# Altium footprint library 60W-PD.PcbLib: 70 footprints (part 4 of 5)
Each footprint in its own frame and in the unit in brackets; x right, y up, seen from the top. Pads: shape width x height; smd on the part's side, far side on the other; paste and mask are expansions set on the pad; w line width, h text height; cw(c..) or ccw(c..) is an arc to the next point about the centre after c.
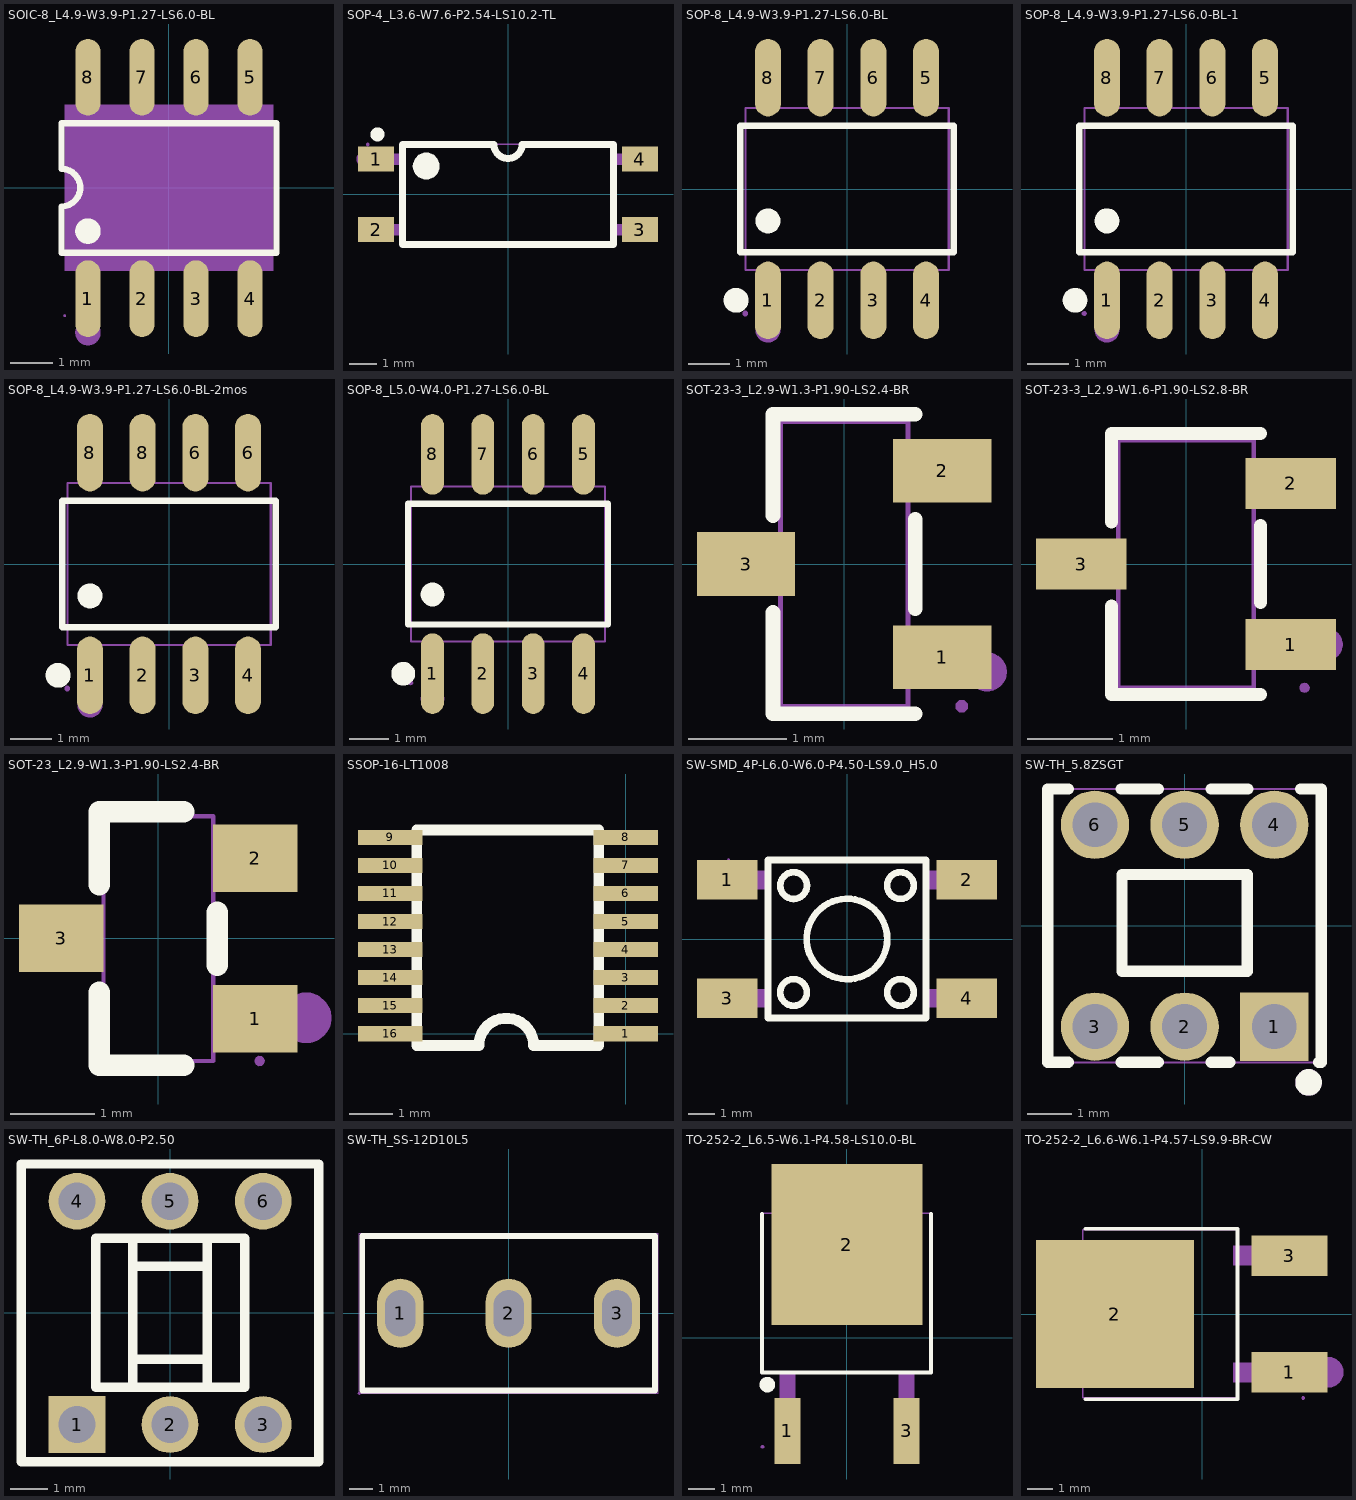
[diagram p3: the footprints below, top view; thin cyan lines are the x and y axes]

## SOIC-8_L4.9-W3.9-P1.27-LS6.0-BL [mil]
pads (8):
  oval 23.1x70.9 smd paste+0 mask+2: 1(-75,-102.4) 2(-25,-102.4) 3(25,-102.4) 4(75,-102.4) 5(75,102.3) 6(25,102.3) 7(-25,102.3) 8(-75,102.3)
Top Overlay:
  lines w5.9: -81.4,-59.9 -99.5,-59.9 ; -81.4,59.9 -99.5,59.9 ; -68.6,-59.9 -31.4,-59.9 ; -68.6,59.9 -31.4,59.9 ; -18.6,-59.9 18.6,-59.9 ; -18.6,59.9 18.6,59.9 ; 31.4,-59.9 68.6,-59.9 ; 31.4,59.9 68.6,59.9 ; 81.4,-59.9 99.4,-59.9 ; 81.4,59.9 99.4,59.9 ; -99.5,-59.9 99.4,-59.9 ; -99.5,-59.9 -99.5,-17.2 -95.9,-16.8 -92.4,-15.7 -89.3,-13.8 -86.6,-11.4 -84.4,-8.5 -82.9,-5.1 -82.2,-1.6 -82.2,2.1 -82.9,5.6 -84.4,8.9 -86.6,11.9 -89.3,14.3 -92.4,16.1 -95.9,17.3 -99.5,17.6 -99.5,59.9 ; -99.5,59.9 99.4,59.9 ; 99.4,-59.9 99.4,59.9
  lines w11.8: -80.9,-40 cw(c-75,-40) -69.1,-40 cw(c-75,-40) -80.9,-40
Mechanical 5:
  lines w11.8: -80.9,-133.9 cw(c-75,-133.9) -69.1,-133.9 cw(c-75,-133.9) -80.9,-133.9
Mechanical 9:
  region: -96.5,-76.8 -96.5,76.7 96.4,76.7 96.4,-76.8
Mechanical 10:
  region: -83.3,-85.7 -83.3,-76.4 -66.8,-76.4 -66.8,-85.7
  region: -33.3,-85.7 -33.3,-76.4 -16.8,-76.4 -16.8,-85.7
  region: 16.7,-85.7 16.7,-76.4 33.2,-76.4 33.2,-85.7
  region: 66.7,-85.7 66.7,-76.4 83.2,-76.4 83.2,-85.7
  region: -83.3,85.6 -83.3,76.3 -66.8,76.3 -66.8,85.6
  region: -33.3,85.6 -33.3,76.3 -16.8,76.3 -16.8,85.6
  region: 16.7,85.6 16.7,76.3 33.2,76.3 33.2,85.6
  region: 66.7,85.6 66.7,76.3 83.2,76.3 83.2,85.6
Mechanical 11:
  region: -95.3,-118.1 -95.7,-117.3 -96.5,-117 -97.3,-117.3 -97.7,-118.1 -97.3,-119 -96.5,-119.3 -95.7,-119
Mechanical 12:
  region: -83.3,-118.1 -83.3,-85.3 -66.8,-85.3 -66.8,-118.1
  region: -33.3,-118.1 -33.3,-85.3 -16.8,-85.3 -16.8,-118.1
  region: 16.7,-118.1 16.7,-85.3 33.2,-85.3 33.2,-118.1
  region: 66.7,-118.1 66.7,-85.3 83.2,-85.3 83.2,-118.1
  region: -83.3,118.1 -83.3,85.2 -66.8,85.2 -66.8,118.1
  region: -33.3,118.1 -33.3,85.2 -16.8,85.2 -16.8,118.1
  region: 16.7,118.1 16.7,85.2 33.2,85.2 33.2,118.1
  region: 66.7,118.1 66.7,85.2 83.2,85.2 83.2,118.1

## SOP-4_L3.6-W7.6-P2.54-LS10.2-TL [mil]
pads (4):
  rect 51.2x35.4 smd: 1(-187,50) 2(-187,-50) 3(187,-50) 4(187,50)
Top Overlay:
  circle w10: c-185,85 r5
  region: -135,39.97 -134.63,36.24 -131.77,29.37 -126.49,24.11 -119.61,21.26 -112.16,21.27 -105.28,24.12 -100.02,29.39 -97.17,36.28 -97.17,43.72 -100.02,50.61 -105.28,55.88 -112.16,58.73 -119.61,58.74 -126.49,55.89 -131.77,50.63 -134.63,43.76 -135,40.03 -135,40.1
  lines w10: -20,70.8 -149.6,70.8 -149.6,-70.9 149.6,-70.9 149.6,70.8 20,70.8 ; -20,70.9 ccw(c0,70.9) 20,70.9
Mechanical 2:
  circle w10: c-205,50 r5
Mechanical 6:
  lines w2: -149.6,-70.9 149.6,-70.9 149.6,70.8 -149.6,70.8 -149.6,-70.9
Mechanical 7:
  region: -171.7,42.1 -171.7,57.8 -147.2,57.8 -147.2,42.1
  region: -171.7,-57.9 -171.7,-42.2 -147.2,-42.2 -147.2,-57.9
  region: 147.2,-57.9 147.2,-42.2 171.7,-42.2 171.7,-57.9
  region: 147.2,42.1 147.2,57.8 171.7,57.8 171.7,42.1
Mechanical 8:
  region: -196.4,70.8 -196.4,69.81 -197.81,68.4 -199.79,68.4 -201.2,69.81 -201.2,70.8 -201.2,71.79 -199.79,73.2 -197.81,73.2 -196.4,71.79
Mechanical 9:
  region: -198.8,42.1 -198.8,57.8 -171.3,57.8 -171.3,42.1
  region: -198.8,-57.9 -198.8,-42.2 -171.3,-42.2 -171.3,-57.9
  region: 171.3,-57.9 171.3,-42.2 198.8,-42.2 198.8,-57.9
  region: 171.3,42.1 171.3,57.8 198.8,57.8 198.8,42.1
3D body "Unnamed-EasyEDA PCB Model~TzVf.step": height 78.74, standoff 0, extent -200.79,-70.87 200.79,70.87

## SOP-8_L4.9-W3.9-P1.27-LS6.0-BL [mil]
pads (8):
  oval 24.8x73.4 smd: 1(-75,-105.6) 2(-25,-105.6) 3(25,-105.6) 4(75,-105.6) 5(75,105.6) 6(25,105.6) 7(-25,105.6) 8(-75,105.6)
Top Overlay:
  circle w11.8: c-105.2,-105.6 r5.9
  circle w11.8: c-75,-30.3 r5.9
  lines w6: -101.4,-59.9 101.4,-59.9 101.4,59.9 -101.4,59.9 -101.4,-59.9
Mechanical 2:
  circle w11.8: c-75,-133.8 r5.9
Mechanical 6:
  lines w2: -96.4,-76.7 96.5,-76.7 96.5,76.8 -96.4,76.8 -96.4,-76.7
Mechanical 7:
  region: -83.4,-92.9 -83.4,-76.4 -66.5,-76.4 -66.5,-92.9
  region: -33.4,-92.9 -33.4,-76.4 -16.5,-76.4 -16.5,-92.9
  region: 16.6,-92.9 16.6,-76.4 33.5,-76.4 33.5,-92.9
  region: 66.6,-92.9 66.6,-76.4 83.5,-76.4 83.5,-92.9
  region: -83.4,76.4 -83.4,92.9 -66.5,92.9 -66.5,76.4
  region: -33.4,76.4 -33.4,92.9 -16.5,92.9 -16.5,76.4
  region: 16.6,76.4 16.6,92.9 33.5,92.9 33.5,76.4
  region: 66.6,76.4 66.6,92.9 83.5,92.9 83.5,76.4
Mechanical 8:
  region: -94,-118.1 -94,-119.09 -95.41,-120.5 -97.39,-120.5 -98.8,-119.09 -98.8,-118.1 -98.8,-117.11 -97.39,-115.7 -95.41,-115.7 -94,-117.11 -94,-118.1 -94.1,-118.1
Mechanical 9:
  region: -83.4,-118.1 -83.4,-92.5 -66.5,-92.5 -66.5,-118.1
  region: -33.4,-118.1 -33.4,-92.5 -16.5,-92.5 -16.5,-118.1
  region: 16.6,-118.1 16.6,-92.5 33.5,-92.5 33.5,-118.1
  region: 66.6,-118.1 66.6,-92.5 83.5,-92.5 83.5,-118.1
  region: -83.4,92.5 -83.4,118.1 -66.5,118.1 -66.5,92.5
  region: -33.4,92.5 -33.4,118.1 -16.5,118.1 -16.5,92.5
  region: 16.6,92.5 16.6,118.1 33.5,118.1 33.5,92.5
  region: 66.6,92.5 66.6,118.1 83.5,118.1 83.5,92.5
3D body "Unnamed-EasyEDA PCB Model~ELOi.step": height 59.06, standoff 0, extent -96.85,-120.36 96.06,115.86

## SOP-8_L4.9-W3.9-P1.27-LS6.0-BL-1 [mil]
pads (8):
  oval 24.8x73.4 smd: 1(-75,-105.6) 2(-25,-105.6) 3(25,-105.6) 4(75,-105.6) 5(75,105.6) 6(25,105.6) 7(-25,105.6) 8(-75,105.6)
Top Overlay:
  lines w6: -101.4,-59.9 -101.4,59.9 101.4,59.9 101.4,-59.9 -101.4,-59.9
  lines w11.8: -111.1,-105.6 -110.7,-107.6 -109.7,-109.4 -108.1,-110.7 -106.2,-111.4 -104.2,-111.4 -102.2,-110.7 -100.7,-109.4 -99.6,-107.6 -99.3,-105.6 -99.6,-103.6 -100.7,-101.8 -102.2,-100.5 -104.2,-99.8 -106.2,-99.8 -108.1,-100.5 -109.7,-101.8 -110.7,-103.6 -111.1,-105.6 ; -80.9,-30.3 -80.5,-32.3 -79.5,-34.1 -77.9,-35.4 -76,-36.1 -74,-36.1 -72,-35.4 -70.5,-34.1 -69.4,-32.3 -69.1,-30.3 -69.4,-28.2 -70.5,-26.5 -72,-25.1 -74,-24.4 -76,-24.4 -77.9,-25.1 -79.5,-26.5 -80.5,-28.2 -80.9,-30.3
Mechanical 2:
  lines w11.8: -80.9,-133.8 -80.5,-135.9 -79.5,-137.6 -77.9,-139 -76,-139.7 -74,-139.7 -72,-139 -70.5,-137.6 -69.4,-135.9 -69.1,-133.8 -69.4,-131.8 -70.5,-130 -72,-128.7 -74,-128 -76,-128 -77.9,-128.7 -79.5,-130 -80.5,-131.8 -80.9,-133.8
Mechanical 6:
  lines w2: -96.4,-76.7 -96.4,76.8 96.5,76.8 96.5,-76.7 -96.4,-76.7
Mechanical 7:
  region: -83.4,-92.9 -83.4,-76.4 -66.5,-76.4 -66.5,-92.9
  region: -33.4,-92.9 -33.4,-76.4 -16.5,-76.4 -16.5,-92.9
  region: 16.6,-92.9 16.6,-76.4 33.5,-76.4 33.5,-92.9
  region: 66.6,-92.9 66.6,-76.4 83.5,-76.4 83.5,-92.9
  region: -83.4,76.4 -83.4,92.9 -66.5,92.9 -66.5,76.4
  region: -33.4,76.4 -33.4,92.9 -16.5,92.9 -16.5,76.4
  region: 16.6,76.4 16.6,92.9 33.5,92.9 33.5,76.4
  region: 66.6,76.4 66.6,92.9 83.5,92.9 83.5,76.4
Mechanical 8:
  region: -94.1,-118.1 -94.5,-119.4 -95.5,-120.2 -96.8,-120.4 -98,-119.9 -98.7,-118.8 -98.7,-117.4 -98,-116.3 -96.8,-115.8 -95.5,-115.9 -94.5,-116.8
Mechanical 9:
  region: -83.4,-118.1 -83.4,-92.5 -66.5,-92.5 -66.5,-118.1
  region: -33.4,-118.1 -33.4,-92.5 -16.5,-92.5 -16.5,-118.1
  region: 16.6,-118.1 16.6,-92.5 33.5,-92.5 33.5,-118.1
  region: 66.6,-118.1 66.6,-92.5 83.5,-92.5 83.5,-118.1
  region: -83.4,92.5 -83.4,118.1 -66.5,118.1 -66.5,92.5
  region: -33.4,92.5 -33.4,118.1 -16.5,118.1 -16.5,92.5
  region: 16.6,92.5 16.6,118.1 33.5,118.1 33.5,92.5
  region: 66.6,92.5 66.6,118.1 83.5,118.1 83.5,92.5

## SOP-8_L4.9-W3.9-P1.27-LS6.0-BL-2mos [mil]
pads (8):
  oval 24.8x73.4 smd: 1(-75,-105.6) 2(-25,-105.6) 3(25,-105.6) 4(75,-105.6) 6(25,105.6) 6(75,105.6) 8(-75,105.6) 8(-25,105.6)
Top Overlay:
  circle w11.8: c-75,-30.3 r5.9
  circle w11.8: c-105.2,-105.6 r5.9
  lines w6: -101.4,-59.9 -101.4,59.9 101.4,59.9 101.4,-59.9 -101.4,-59.9
Mechanical 2:
  circle w11.8: c-75,-133.8 r5.9
Mechanical 6:
  lines w2: -96.4,-76.7 -96.4,76.8 96.5,76.8 96.5,-76.7 -96.4,-76.7
Mechanical 7:
  region: 66.6,76.4 66.6,92.9 83.5,92.9 83.5,76.4
  region: 16.6,76.4 16.6,92.9 33.5,92.9 33.5,76.4
  region: -33.4,76.4 -33.4,92.9 -16.5,92.9 -16.5,76.4
  region: -83.4,76.4 -83.4,92.9 -66.5,92.9 -66.5,76.4
  region: 66.6,-92.9 66.6,-76.4 83.5,-76.4 83.5,-92.9
  region: 16.6,-92.9 16.6,-76.4 33.5,-76.4 33.5,-92.9
  region: -33.4,-92.9 -33.4,-76.4 -16.5,-76.4 -16.5,-92.9
  region: -83.4,-92.9 -83.4,-76.4 -66.5,-76.4 -66.5,-92.9
Mechanical 8:
  region: -94,-118.1 -94,-119.09 -95.41,-120.5 -97.39,-120.5 -98.8,-119.09 -98.8,-118.1 -98.8,-117.11 -97.39,-115.7 -95.41,-115.7 -94,-117.11 -94,-118.1 -94.1,-118.1
Mechanical 9:
  region: 66.6,92.5 66.6,118.1 83.5,118.1 83.5,92.5
  region: 16.6,92.5 16.6,118.1 33.5,118.1 33.5,92.5
  region: -33.4,92.5 -33.4,118.1 -16.5,118.1 -16.5,92.5
  region: -83.4,92.5 -83.4,118.1 -66.5,118.1 -66.5,92.5
  region: 66.6,-118.1 66.6,-92.5 83.5,-92.5 83.5,-118.1
  region: 16.6,-118.1 16.6,-92.5 33.5,-92.5 33.5,-118.1
  region: -33.4,-118.1 -33.4,-92.5 -16.5,-92.5 -16.5,-118.1
  region: -83.4,-118.1 -83.4,-92.5 -66.5,-92.5 -66.5,-118.1

## SOP-8_L5.0-W4.0-P1.27-LS6.0-BL [mil]
pads (8):
  oval 22.6x80.1 smd: 1(-75,-108.9) 2(-25,-108.9) 3(25,-108.9) 4(75,-108.9) 5(75,109) 6(25,109) 7(-25,109) 8(-75,109)
Top Overlay:
  lines w6: -99.4,-59.9 99.5,-59.9 99.5,59.9 -99.4,59.9 -99.4,-59.9
  lines w11.8: -110,-108.9 -109.6,-106.9 -108.6,-105.1 -107,-103.8 -105.1,-103.1 -103.1,-103.1 -101.1,-103.8 -99.6,-105.1 -98.5,-106.9 -98.2,-108.9 -98.5,-111 -99.6,-112.7 -101.1,-114 -103.1,-114.8 -105.1,-114.8 -107,-114 -108.6,-112.7 -109.6,-111 -110,-108.9 ; -80.9,-30.2 -80.5,-28.2 -79.5,-26.4 -77.9,-25.1 -76,-24.4 -74,-24.4 -72,-25.1 -70.5,-26.4 -69.4,-28.2 -69.1,-30.2 -69.4,-32.3 -70.5,-34 -72,-35.4 -74,-36.1 -76,-36.1 -77.9,-35.4 -79.5,-34 -80.5,-32.3 -80.9,-30.2
Mechanical 2:
  lines w11.8: -80.9,-133.7 -80.5,-131.7 -79.5,-129.9 -77.9,-128.6 -76,-127.9 -74,-127.9 -72,-128.6 -70.5,-129.9 -69.4,-131.7 -69.1,-133.7 -69.4,-135.7 -70.5,-137.5 -72,-138.8 -74,-139.5 -76,-139.5 -77.9,-138.8 -79.5,-137.5 -80.5,-135.7 -80.9,-133.7
Mechanical 6:
  lines w2: -96.4,-76.7 96.5,-76.7 96.5,76.8 -96.4,76.8 -96.4,-76.7
Mechanical 7:
  region: 66.9,85.6 66.9,76.4 83.1,76.4 83.1,85.6
  region: 16.9,85.6 16.9,76.4 33.1,76.4 33.1,85.6
  region: -33.1,85.6 -33.1,76.4 -16.9,76.4 -16.9,85.6
  region: -83.1,85.6 -83.1,76.4 -66.9,76.4 -66.9,85.6
  region: 66.9,-85.5 66.9,-76.3 83.1,-76.3 83.1,-85.5
  region: 16.9,-85.5 16.9,-76.3 33.1,-76.3 33.1,-85.5
  region: -33.1,-85.5 -33.1,-76.3 -16.9,-76.3 -16.9,-85.5
  region: -83.1,-85.5 -83.1,-76.3 -66.9,-76.3 -66.9,-85.5
Mechanical 8:
  region: -94.1,-118 -94.5,-119.2 -95.5,-120.1 -96.8,-120.3 -98,-119.8 -98.7,-118.6 -98.7,-117.3 -98,-116.2 -96.8,-115.6 -95.5,-115.8 -94.5,-116.7
Mechanical 9:
  region: 66.9,118.1 66.9,85.2 83.1,85.2 83.1,118.1
  region: 16.9,118.1 16.9,85.2 33.1,85.2 33.1,118.1
  region: -33.1,118.1 -33.1,85.2 -16.9,85.2 -16.9,118.1
  region: -83.1,118.1 -83.1,85.2 -66.9,85.2 -66.9,118.1
  region: 66.9,-118 66.9,-85.1 83.1,-85.1 83.1,-118
  region: 16.9,-118 16.9,-85.1 33.1,-85.1 33.1,-118
  region: -33.1,-118 -33.1,-85.1 -16.9,-85.1 -16.9,-118
  region: -83.1,-118 -83.1,-85.1 -66.9,-85.1 -66.9,-118

## SOT-23-3_L2.9-W1.3-P1.90-LS2.4-BR [mil]
pads (3):
  rect 39.4x25.6 smd: 1(39.3,-37.4) 2(39.3,37.4) 3(-39.4,0)
Top Overlay:
  lines w6: -28.6,-19.5 -28.6,-60.1 28.5,-60.1 ; -28.6,19.5 -28.6,60.1 28.5,60.1 ; 28.5,-17.9 28.5,17.9
Mechanical 2:
  circle w7.9: c57.4,-43.3 r3.9
Mechanical 6:
  lines w2: -25.6,-57.1 25.5,-57.1 25.5,57.1 -25.6,57.1 -25.6,-57.1
Mechanical 7:
  region: -35.9,-8.5 -35.9,8.5 -25.2,8.5 -25.2,-8.5
  region: 25.2,-45.9 25.2,-28.9 35.8,-28.9 35.8,-45.9
  region: 25.2,28.9 25.2,45.9 35.8,45.9 35.8,28.9
Mechanical 8:
  region: 49.6,-57.1 49.6,-58.09 48.19,-59.5 46.21,-59.5 44.8,-58.09 44.8,-57.1 44.8,-56.11 46.21,-54.7 48.19,-54.7 49.6,-56.11
Mechanical 9:
  region: -47.3,-8.5 -47.3,8.5 -35.5,8.5 -35.5,-8.5
  region: 35.4,-45.9 35.4,-28.9 47.2,-28.9 47.2,-45.9
  region: 35.4,28.9 35.4,45.9 47.2,45.9 47.2,28.9
3D body "Unnamed-EasyEDA PCB Model~HGrC.step": height 41.26, standoff 0, extent -49.21,-56.96 49.21,56.96

## SOT-23-3_L2.9-W1.6-P1.90-LS2.8-BR [mil]
pads (3):
  rect 42.1x23.6 smd: 1(48.6,-37.4) 2(48.6,37.4) 3(-48.6,0)
Top Overlay:
  lines w6: -34.5,-19.5 -34.5,-60.5 34.5,-60.5 ; -34.5,19.5 -34.5,60.5 34.5,60.5 ; 34.5,-17.9 34.5,17.9
Mechanical 2:
  lines w7.9: 61.1,-37.4 61.4,-35.7 62.5,-34.3 64.1,-33.6 65.9,-33.6 67.4,-34.3 68.5,-35.7 68.9,-37.4 68.5,-39.1 67.4,-40.5 65.9,-41.3 64.1,-41.3 62.5,-40.5 61.4,-39.1 61.1,-37.4
Mechanical 6:
  lines w2: -31.5,-57.5 31.5,-57.5 31.5,57.5 -31.5,57.5 -31.5,-57.5
Mechanical 7:
  region: -37.8,-7.9 -37.8,7.9 -31.1,7.9 -31.1,-7.9
  region: 31.1,29.5 31.1,45.3 37.8,45.3 37.8,29.5
  region: 31.1,-45.3 31.1,-29.5 37.8,-29.5 37.8,-45.3
Mechanical 8:
  region: 57.5,-57.5 57.1,-58.8 56.1,-59.6 54.8,-59.8 53.6,-59.3 52.8,-58.2 52.8,-56.8 53.6,-55.7 54.8,-55.2 56.1,-55.4 57.1,-56.2
Mechanical 9:
  region: -37.4,-7.9 -37.4,7.9 -55.1,7.9 -55.1,-7.9
  region: 37.4,29.5 37.4,45.3 55.1,45.3 55.1,29.5
  region: 37.4,-45.3 37.4,-29.5 55.1,-29.5 55.1,-45.3

## SOT-23_L2.9-W1.3-P1.90-LS2.4-BR [mil]
pads (3):
  rect 39.4x31.5 smd: 1(45.2,-37.4) 2(45.2,37.4) 3(-45.3,0)
Top Overlay:
  lines w10: -27.6,-25.1 -27.6,-59.1 11.8,-59.1 ; -27.6,25 -27.6,59 11.8,59 ; 27.5,-12.4 27.5,12.3
Mechanical 2:
  lines w11.8: 63.1,-37 63.4,-35 64.4,-33.3 66,-31.9 67.9,-31.2 70,-31.2 71.9,-31.9 73.5,-33.3 74.5,-35 74.9,-37 74.5,-39.1 73.5,-40.8 71.9,-42.2 70,-42.9 67.9,-42.9 66,-42.2 64.4,-40.8 63.4,-39.1 63.1,-37
Mechanical 6:
  lines w2: -25.6,-57.1 25.6,-57.1 25.6,57 -25.6,57 -25.6,-57.1
Mechanical 7:
  region: -31.9,-7.9 -31.9,7.8 -25.2,7.8 -25.2,-7.9
  region: 25.2,29.5 25.2,45.2 31.9,45.2 31.9,29.5
  region: 25.2,-45.3 25.2,-29.6 31.9,-29.6 31.9,-45.3
Mechanical 8:
  region: 49.6,-57.1 49.2,-58.4 48.2,-59.3 46.9,-59.5 45.7,-58.9 44.9,-57.8 44.9,-56.5 45.7,-55.4 46.9,-54.8 48.2,-55 49.2,-55.9
Mechanical 9:
  region: -47.3,-7.9 -47.3,7.8 -31.5,7.8 -31.5,-7.9
  region: 31.5,29.5 31.5,45.2 47.2,45.2 47.2,29.5
  region: 31.5,-45.3 31.5,-29.6 47.2,-29.6 47.2,-45.3

## SSOP-16-LT1008 [mm]
height 2
pads (16):
  rect 1.5x0.35 smd: 1(0,0) 2(0,0.65) 3(0,1.3) 4(0,1.95) 5(0,2.6) 6(0,3.25) 7(0,3.9) 8(0,4.55) 9(-5.45,4.55) 10(-5.45,3.9) 11(-5.45,3.25) 12(-5.45,2.6) 13(-5.45,1.95) 14(-5.45,1.3) 15(-5.45,0.65) 16(-5.45,0)
Top Overlay:
  lines w0.254: -2.13,-0.275 ccw(c-2.765,-0.275) -3.4,-0.275 -4.839,-0.275 -4.839,4.725 -0.622,4.725 -0.622,-0.275 -2.125,-0.275
3D body "Unnamed-EasyEDA PCB Model~QAN4.step": height 1.77, standoff 0, extent -5.847,-0.164 0.259,4.736

## SW-SMD_4P-L6.0-W6.0-P4.50-LS9.0_H5.0 [mil]
pads (4):
  rect 90.6x59.1 smd: 1(-179.1,88.6) 2(179.1,88.6) 3(-179.1,-88.6) 4(179.1,-88.6)
Top Overlay:
  drawing of 187 lines, arcs and shapes, not listed
Mechanical 6:
  lines w2: -118.1,-118.1 -118.1,118.1 118.1,118.1 118.1,-118.1 -118.1,-118.1
Mechanical 7:
  region: 117.7,74.8 117.7,102.4 138.2,102.4 138.2,74.8
  region: 117.7,-102.3 117.7,-74.8 138.2,-74.8 138.2,-102.3
  region: -138.2,-102.3 -138.2,-74.8 -117.7,-74.8 -117.7,-102.3
  region: -138.2,74.8 -138.2,102.4 -117.7,102.4 -117.7,74.8
Mechanical 8:
  region: -174.8,118.1 -175.2,116.8 -176.2,116 -177.5,115.8 -178.7,116.3 -179.4,117.5 -179.4,118.8 -178.7,119.9 -177.5,120.5 -176.2,120.3 -175.2,119.4
Mechanical 9:
  region: 137.8,74.8 137.8,102.4 177.2,102.4 177.2,74.8
  region: 137.8,-102.3 137.8,-74.8 177.2,-74.8 177.2,-102.3
  region: -177.2,-102.3 -177.2,-74.8 -137.8,-74.8 -137.8,-102.3
  region: -177.2,74.8 -177.2,102.4 -137.8,102.4 -137.8,74.8

## SW-TH_5.8ZSGT [mil]
pads (6):
  rect 60x60 hole 39.4: 1(78.7,-88.6)
  round 60 hole 39.4: 2(0,-88.6) 3(-78.7,-88.6) 4(78.7,88.6) 5(0,88.6) 6(-78.7,88.6)
Top Overlay:
  lines w10: -102,-119.9 -120,-119.9 -120,120 -102,120 ; -55.5,-119.9 -23.3,-119.9 ; -55.5,120 -23.3,120 ; 23.3,-119.9 39.7,-119.9 ; 23.3,120 55.5,120 ; 102,120 120,120 120,-119.9 117.7,-119.9 ; -55,-40 -55,45 55,45 55,-40 -55,-40
  lines w11.8: 103,-137.5 103.3,-135.5 104.4,-133.7 105.9,-132.4 107.9,-131.7 109.9,-131.7 111.8,-132.4 113.4,-133.7 114.4,-135.5 114.8,-137.5 114.4,-139.5 113.4,-141.3 111.8,-142.6 109.9,-143.3 107.9,-143.3 105.9,-142.6 104.4,-141.3 103.3,-139.5 103,-137.5
Mechanical 2:
  lines w11.8: 103,-137.5 103.3,-135.5 104.4,-133.7 105.9,-132.4 107.9,-131.7 109.9,-131.7 111.8,-132.4 113.4,-133.7 114.4,-135.5 114.8,-137.5 114.4,-139.5 113.4,-141.3 111.8,-142.6 109.9,-143.3 107.9,-143.3 105.9,-142.6 104.4,-141.3 103.3,-139.5 103,-137.5
Mechanical 3:
  lines w2: -120,-120 -120,120 120,120 120,-120 -120,-120
Mechanical 5:
  region: 122.4,-120 122,-121.3 121,-122.1 119.7,-122.3 118.5,-121.8 117.7,-120.6 117.7,-119.3 118.5,-118.2 119.7,-117.6 121,-117.8 122,-118.7
Mechanical 6:
  drawing of 6 lines, arcs and shapes, not listed

## SW-TH_6P-L8.0-W8.0-P2.50 [mil]
pads (6):
  rect 60x60 hole 39.4: 1(-98.4,-118.1)
  round 60 hole 39.4: 2(0,-118.1) 3(98.5,-118.1) 4(-98.4,118.2) 5(0,118.2) 6(98.5,118.2)
Top Overlay:
  lines w10: -39.3,-78.7 -39.3,78.8 ; -39.3,-49.2 39.4,-49.2 ; -39.3,49.3 39.4,49.3 ; 39.4,-78.7 39.4,78.8 ; -157.4,-157.4 -157.4,157.5 157.5,157.5 157.5,-157.4 -157.4,-157.4 ; -78.7,-78.7 -78.7,78.8 78.8,78.8 78.8,-78.7 -78.7,-78.7
Mechanical 6:
  lines w2: -157.4,-157.4 157.5,-157.4 157.5,157.5 -157.4,157.5 -157.4,-157.4
Mechanical 8:
  region: -155.1,-157.4 -155.5,-158.7 -156.5,-159.6 -157.8,-159.8 -159,-159.2 -159.7,-158.1 -159.7,-156.8 -159,-155.7 -157.8,-155.1 -156.5,-155.3 -155.5,-156.2
Mechanical 9:
  region: -110.2,-112.2 -86.6,-112.2 -86.6,-124 -110.2,-124
  region: -11.8,-112.2 11.9,-112.2 11.9,-124 -11.8,-124
  region: 86.7,-112.2 110.3,-112.2 110.3,-124 86.7,-124
  region: 86.7,124.1 110.3,124.1 110.3,112.2 86.7,112.2
  region: -11.8,124.1 11.9,124.1 11.9,112.2 -11.8,112.2
  region: -110.2,124.1 -86.6,124.1 -86.6,112.2 -110.2,112.2

## SW-TH_SS-12D10L5 [mil]
pads (3):
  oval 78.7x118.1 hole 51.2 slot 78.7 at 90 deg: 1(-185.1,0) 2(0,0) 3(185,0)
Top Overlay:
  lines w10: -250,-131.9 -250,131.8 250,131.8 250,-131.9 -250,-131.9
Mechanical 6:
  lines w2: -255,-136.9 -255,136.8 255,136.8 255,-136.9 -255,-136.9
Mechanical 8:
  region: -252.7,-136.9 -253.1,-138.2 -254.1,-139.1 -255.4,-139.3 -256.6,-138.7 -257.3,-137.6 -257.3,-136.3 -256.6,-135.2 -255.4,-134.6 -254.1,-134.8 -253.1,-135.7
Mechanical 9:
  region: -200.8,25.5 -169.3,25.5 -169.3,-25.6 -200.8,-25.6
  region: -15.8,25.5 15.7,25.5 15.7,-25.6 -15.8,-25.6
  region: 169.3,25.5 200.7,25.5 200.7,-25.6 169.3,-25.6

## TO-252-2_L6.5-W6.1-P4.58-LS10.0-BL [mil]
pads (3):
  rect 39.4x100 smd paste+0 mask+2: 1(-90.1,-141.2) 3(90.2,-141.2)
  rect 228.3x244.1 smd paste+0 mask+2: 2(0,141.2)
Top Overlay:
  circle w11.8: c-120.7,-71 r5.9
  lines w6: -128.5,187.8 -128.5,-52.4 127.4,-52.4 127.4,187.8
Mechanical 2:
  circle w15.7: c-90.5,-172.7 r7.9
Mechanical 6:
  lines w2: -127.9,-51.7 -127.9,188.5 128,188.5 128,-51.7 -127.9,-51.7
Mechanical 7:
  region: 78.4,-106.6 102,-106.6 102,-51.3 78.4,-51.3
  region: -102,-106.6 -78.3,-106.6 -78.3,-51.3 -102,-51.3
Mechanical 8:
  region: -125.5,-165.3 -125.5,-166.29 -126.91,-167.7 -128.89,-167.7 -130.3,-166.29 -130.3,-165.3 -130.3,-164.31 -128.89,-162.9 -126.91,-162.9 -125.5,-164.31 -125.5,-165.3 -125.6,-165.3
Mechanical 9:
  region: -104.3,227.9 104.3,227.9 104.3,24.7 -104.3,24.7
  region: -102,-106.2 -78.3,-106.2 -78.3,-165.3 -102,-165.3
  region: 78.4,-106.2 102,-106.2 102,-165.3 78.4,-165.3
3D body "Unnamed-EasyEDA PCB Model~v0RWTO-252-2_L6.5-W6.1-P4.58-LS10.0-BL~TO-252-2_L6.5-W6.1-H2.3-LS10.0-P4.58~K3ym002.step": height 90.55, standoff 0, extent -125,-149.55 130.91,189.55

## TO-252-2_L6.6-W6.1-P4.57-LS9.9-BR-CW [mil]
pads (3):
  rect 118.1x63 smd: 1(134.8,-90.2) 3(134.8,90.2)
  rect 244.1x228.3 smd: 2(-134.9,0)
Top Overlay:
  lines w6: -180.6,-131.7 54.4,-131.7 54.4,131.7 -180.6,131.7
Mechanical 2:
  circle w23.6: c194.9,-90 r11.8
Mechanical 6:
  lines w2: -185,-129.8 55,-129.8 55,130 -185,130 -185,-129.8
Mechanical 7:
  region: 47.6,-105.1 47.6,-75.2 93.7,-75.2 93.7,-105.1
  region: 47.6,75.2 47.6,105.1 93.7,105.1 93.7,75.2
Mechanical 8:
  region: 158.3,-129.8 158.3,-130.79 156.89,-132.2 154.91,-132.2 153.5,-130.79 153.5,-129.8 153.5,-128.81 154.91,-127.4 156.89,-127.4 158.3,-128.81
Mechanical 9:
  region: 93.3,-105.1 93.3,-75.2 155.9,-75.2 155.9,-105.1
  region: 93.3,75.2 93.3,105.1 155.9,105.1 155.9,75.2
  region: -195.1,98.6 -37,98.6 -37,-98.6 -195.1,-98.6 -234.4,-59.2 -234.4,59.3
3D body "Unnamed-EasyEDA PCB Model~qbyL.step": height 90.55, standoff 0, extent -245.26,-129.84 145.26,130